# Altium footprint library Connector_Samtec_FSI.PcbLib: 90 footprints (part 5 of 6)
Each footprint in its own frame and in the unit in brackets; x right, y up, seen from the top. Pads: shape width x height; smd on the part's side, far side on the other; paste and mask are expansions set on the pad; w line width, h text height; cw(c..) or ccw(c..) is an arc to the next point about the centre after c.
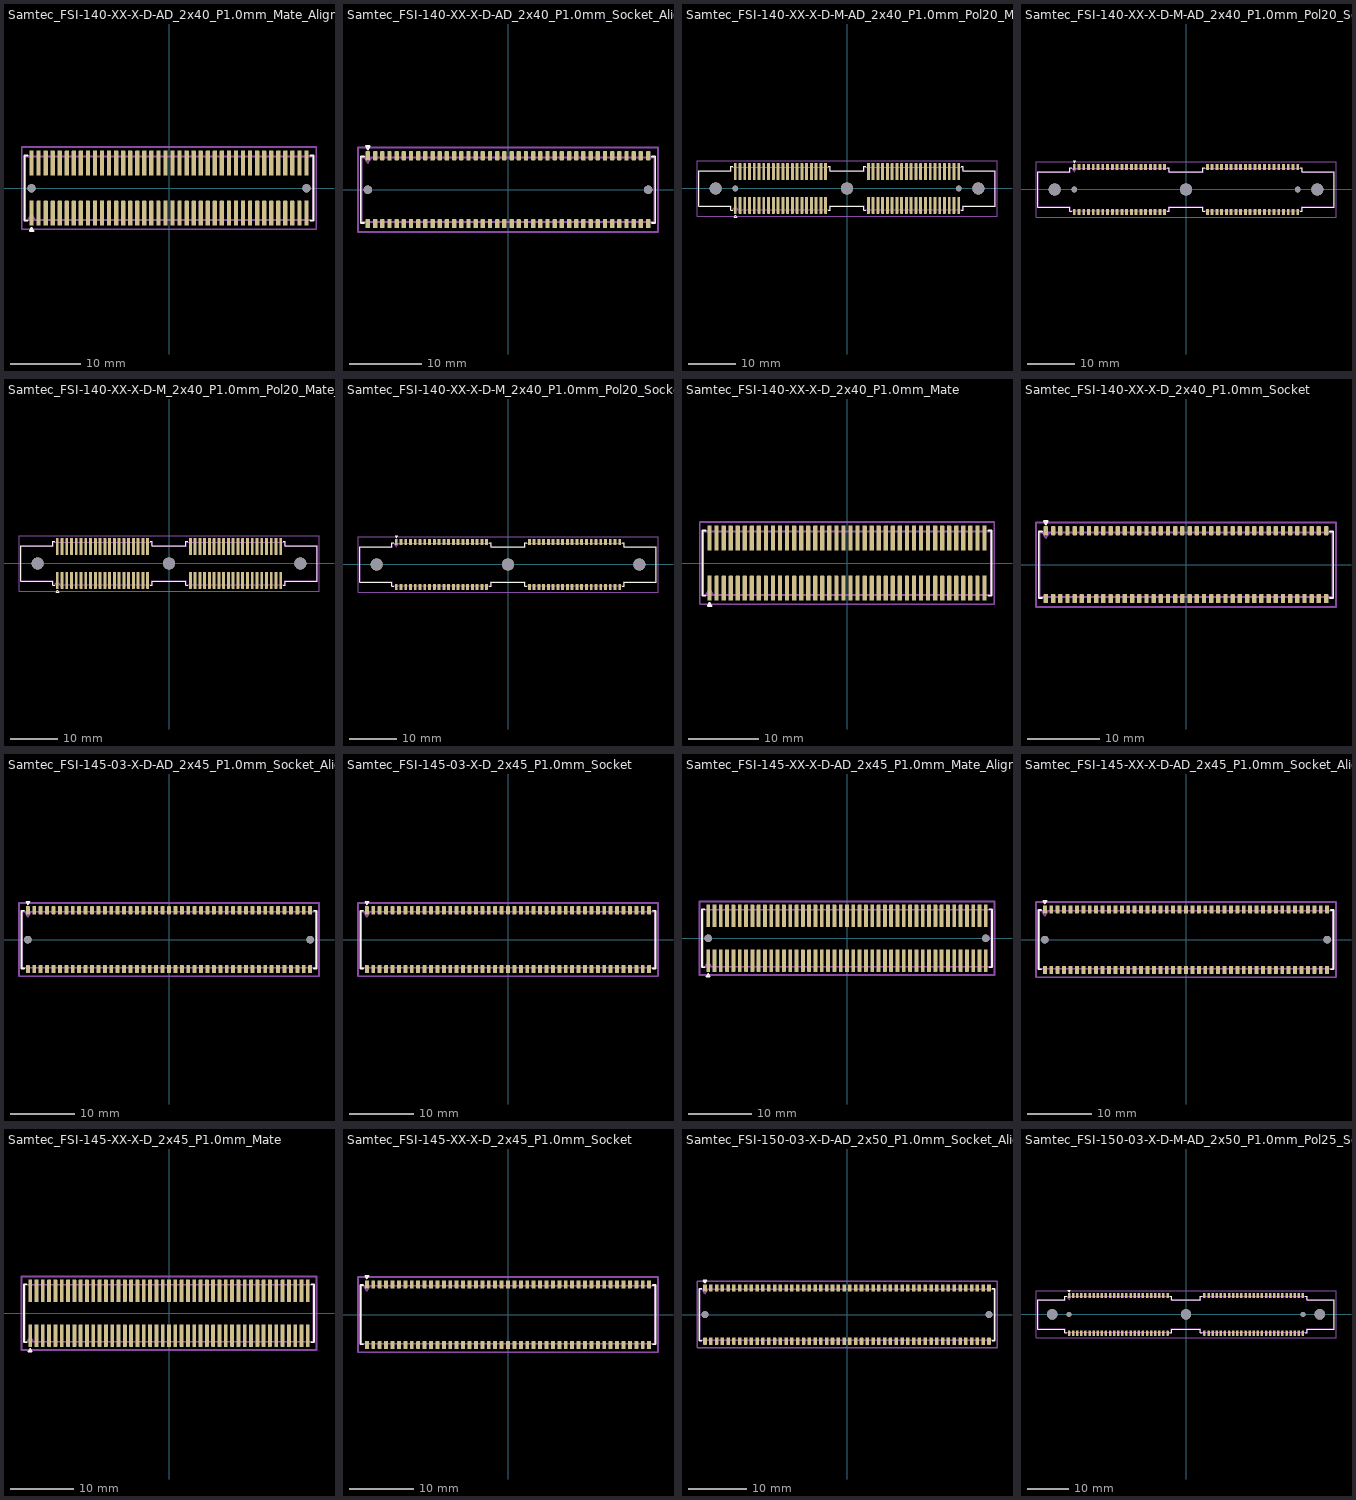
[diagram p4: the footprints below, top view; thin cyan lines are the x and y axes]

## Samtec_FSI-140-XX-X-D-AD_2x40_P1.0mm_Mate_AlignmentPin [mm]
pads (82):
  rrect25% 0.61x3.55 smd: 1(-19.5,-3.555) 2(-19.5,3.555) 3(-18.5,-3.555) 4(-18.5,3.555) 5(-17.5,-3.555) 6(-17.5,3.555) 7(-16.5,-3.555) 8(-16.5,3.555) 9(-15.5,-3.555) 10(-15.5,3.555) 11(-14.5,-3.555) 12(-14.5,3.555) 13(-13.5,-3.555) 14(-13.5,3.555) 15(-12.5,-3.555) 16(-12.5,3.555) 17(-11.5,-3.555) 18(-11.5,3.555) 19(-10.5,-3.555) 20(-10.5,3.555) 21(-9.5,-3.555) 22(-9.5,3.555) 23(-8.5,-3.555) 24(-8.5,3.555) 25(-7.5,-3.555) 26(-7.5,3.555) 27(-6.5,-3.555) 28(-6.5,3.555) 29(-5.5,-3.555) 30(-5.5,3.555) 31(-4.5,-3.555) 32(-4.5,3.555) 33(-3.5,-3.555) 34(-3.5,3.555) 35(-2.5,-3.555) 36(-2.5,3.555) 37(-1.5,-3.555) 38(-1.5,3.555) 39(-0.5,-3.555) 40(-0.5,3.555) 41(0.5,-3.555) 42(0.5,3.555) 43(1.5,-3.555) 44(1.5,3.555) 45(2.5,-3.555) 46(2.5,3.555) 47(3.5,-3.555) 48(3.5,3.555) 49(4.5,-3.555) 50(4.5,3.555) 51(5.5,-3.555) 52(5.5,3.555) 53(6.5,-3.555) 54(6.5,3.555) 55(7.5,-3.555) 56(7.5,3.555) 57(8.5,-3.555) 58(8.5,3.555) 59(9.5,-3.555) 60(9.5,3.555) 61(10.5,-3.555) 62(10.5,3.555) 63(11.5,-3.555) 64(11.5,3.555) 65(12.5,-3.555) 66(12.5,3.555) 67(13.5,-3.555) 68(13.5,3.555) 69(14.5,-3.555) 70(14.5,3.555) 71(15.5,-3.555) 72(15.5,3.555) 73(16.5,-3.555) 74(16.5,3.555) 75(17.5,-3.555) 76(17.5,3.555) 77(18.5,-3.555) 78(18.5,3.555) 79(19.5,-3.555) 80(19.5,3.555)
  round 1.19 hole 1.19: Un1(-19.5,0) Un2(19.5,0)
F.SilkS:
  lines w0.254: -20.065,-4.618 -20.49,-4.618 -20.49,4.618 -20.065,4.618 ; 20.065,-4.618 20.49,-4.618 20.49,4.618 20.065,4.618 ; -19.764,-6.066 -19.236,-6.066 -19.5,-5.609 -19.764,-6.066
Top Assembly:
  lines w0.254: -20,-4.508 -19.5,-3.708 -19,-4.508 ; -20.38,-4.508 20.38,-4.508 20.38,4.508 -20.38,4.508 -20.38,-4.508
  text "'.Designator'" at -4.047,-0.84 h1
Top Courtyard:
  lines w0.254: -20.88,-5.83 20.88,-5.83 20.88,5.83 -20.88,5.83 -20.88,-5.83
Top Designator:
  text ".Designator" at -7.618,-0.626 h1.52

## Samtec_FSI-140-XX-X-D-AD_2x40_P1.0mm_Socket_AlignmentPin [mm]
pads (82):
  rrect25% 0.61x1.26 smd: 1(-19.5,4.73) 2(-19.5,-4.73) 3(-18.5,4.73) 4(-18.5,-4.73) 5(-17.5,4.73) 6(-17.5,-4.73) 7(-16.5,4.73) 8(-16.5,-4.73) 9(-15.5,4.73) 10(-15.5,-4.73) 11(-14.5,4.73) 12(-14.5,-4.73) 13(-13.5,4.73) 14(-13.5,-4.73) 15(-12.5,4.73) 16(-12.5,-4.73) 17(-11.5,4.73) 18(-11.5,-4.73) 19(-10.5,4.73) 20(-10.5,-4.73) 21(-9.5,4.73) 22(-9.5,-4.73) 23(-8.5,4.73) 24(-8.5,-4.73) 25(-7.5,4.73) 26(-7.5,-4.73) 27(-6.5,4.73) 28(-6.5,-4.73) 29(-5.5,4.73) 30(-5.5,-4.73) 31(-4.5,4.73) 32(-4.5,-4.73) 33(-3.5,4.73) 34(-3.5,-4.73) 35(-2.5,4.73) 36(-2.5,-4.73) 37(-1.5,4.73) 38(-1.5,-4.73) 39(-0.5,4.73) 40(-0.5,-4.73) 41(0.5,4.73) 42(0.5,-4.73) 43(1.5,4.73) 44(1.5,-4.73) 45(2.5,4.73) 46(2.5,-4.73) 47(3.5,4.73) 48(3.5,-4.73) 49(4.5,4.73) 50(4.5,-4.73) 51(5.5,4.73) 52(5.5,-4.73) 53(6.5,4.73) 54(6.5,-4.73) 55(7.5,4.73) 56(7.5,-4.73) 57(8.5,4.73) 58(8.5,-4.73) 59(9.5,4.73) 60(9.5,-4.73) 61(10.5,4.73) 62(10.5,-4.73) 63(11.5,4.73) 64(11.5,-4.73) 65(12.5,4.73) 66(12.5,-4.73) 67(13.5,4.73) 68(13.5,-4.73) 69(14.5,4.73) 70(14.5,-4.73) 71(15.5,4.73) 72(15.5,-4.73) 73(16.5,4.73) 74(16.5,-4.73) 75(17.5,4.73) 76(17.5,-4.73) 77(18.5,4.73) 78(18.5,-4.73) 79(19.5,4.73) 80(19.5,-4.73)
  round 1.19 hole 1.19: Un1(-19.5,0) Un2(19.5,0)
F.SilkS:
  lines w0.254: -20.065,-4.618 -20.49,-4.618 -20.49,4.618 -20.065,4.618 ; -19.507,5.62 -19.764,6.066 -19.236,6.066 -19.493,5.62 ; 20.065,-4.618 20.49,-4.618 20.49,4.618 20.065,4.618
Top Assembly:
  lines w0.254: -20,4.508 -19.5,3.708 -19,4.508 ; -20.38,-4.508 20.38,-4.508 20.38,4.508 -20.38,4.508 -20.38,-4.508
  text "'.Designator'" at -4.047,-0.84 h1
Top Courtyard:
  lines w0.254: -20.88,-5.86 20.88,-5.86 20.88,5.86 -20.88,5.86 -20.88,-5.86
Top Designator:
  text ".Designator" at -7.618,-0.405 h1.52

## Samtec_FSI-140-XX-X-D-M-AD_2x40_P1.0mm_Pol20_Mate_Threaded_AlignmentPin [mm]
pads (85):
  rrect25% 0.61x3.55 smd: 1(-23.5,-3.555) 2(-23.5,3.555) 3(-22.5,-3.555) 4(-22.5,3.555) 5(-21.5,-3.555) 6(-21.5,3.555) 7(-20.5,-3.555) 8(-20.5,3.555) 9(-19.5,-3.555) 10(-19.5,3.555) 11(-18.5,-3.555) 12(-18.5,3.555) 13(-17.5,-3.555) 14(-17.5,3.555) 15(-16.5,-3.555) 16(-16.5,3.555) 17(-15.5,-3.555) 18(-15.5,3.555) 19(-14.5,-3.555) 20(-14.5,3.555) 21(-13.5,-3.555) 22(-13.5,3.555) 23(-12.5,-3.555) 24(-12.5,3.555) 25(-11.5,-3.555) 26(-11.5,3.555) 27(-10.5,-3.555) 28(-10.5,3.555) 29(-9.5,-3.555) 30(-9.5,3.555) 31(-8.5,-3.555) 32(-8.5,3.555) 33(-7.5,-3.555) 34(-7.5,3.555) 35(-6.5,-3.555) 36(-6.5,3.555) 37(-5.5,-3.555) 38(-5.5,3.555) 39(-4.5,-3.555) 40(-4.5,3.555) 41(4.5,-3.555) 42(4.5,3.555) 43(5.5,-3.555) 44(5.5,3.555) 45(6.5,-3.555) 46(6.5,3.555) 47(7.5,-3.555) 48(7.5,3.555) 49(8.5,-3.555) 50(8.5,3.555) 51(9.5,-3.555) 52(9.5,3.555) 53(10.5,-3.555) 54(10.5,3.555) 55(11.5,-3.555) 56(11.5,3.555) 57(12.5,-3.555) 58(12.5,3.555) 59(13.5,-3.555) 60(13.5,3.555) 61(14.5,-3.555) 62(14.5,3.555) 63(15.5,-3.555) 64(15.5,3.555) 65(16.5,-3.555) 66(16.5,3.555) 67(17.5,-3.555) 68(17.5,3.555) 69(18.5,-3.555) 70(18.5,3.555) 71(19.5,-3.555) 72(19.5,3.555) 73(20.5,-3.555) 74(20.5,3.555) 75(21.5,-3.555) 76(21.5,3.555) 77(22.5,-3.555) 78(22.5,3.555) 79(23.5,-3.555) 80(23.5,3.555)
  round 2.54 hole 2.54: Un1(-27.62,0) Un3(0,0) Un5(27.62,0)
  round 1.19 hole 1.19: Un2(-23.5,0) Un4(23.5,0)
F.SilkS:
  lines w0.254: -24.065,-4.618 -24.49,-4.618 -24.49,-3.734 -31.16,-3.734 -31.16,3.734 -24.49,3.734 -24.49,4.618 -24.065,4.618 ; -3.935,-4.618 -3.51,-4.618 -3.51,-3.734 3.51,-3.734 3.51,-4.618 3.935,-4.618 ; -3.935,4.618 -3.51,4.618 -3.51,3.734 3.51,3.734 3.51,4.618 3.935,4.618 ; 24.065,-4.618 24.49,-4.618 24.49,-3.734 31.16,-3.734 31.16,3.734 24.49,3.734 24.49,4.618 24.065,4.618 ; -23.764,-6.066 -23.236,-6.066 -23.5,-5.609 -23.764,-6.066
Top Assembly:
  lines w0.254: -24,-4.508 -23.5,-3.708 -23,-4.508 ; -31.05,-3.624 -24.38,-3.624 -24.38,-4.508 -3.62,-4.508 -3.62,-3.624 3.62,-3.624 3.62,-4.508 24.38,-4.508 24.38,-3.624 31.05,-3.624 31.05,3.624 24.38,3.624 24.38,4.508 3.62,4.508 3.62,3.624 -3.62,3.624 -3.62,4.508 -24.38,4.508 -24.38,3.624 -31.05,3.624 -31.05,-3.624
  text "'.Designator'" at -4.047,-0.84 h1
Top Courtyard:
  lines w0.254: -31.55,-5.83 31.55,-5.83 31.55,5.83 -31.55,5.83 -31.55,-5.83
Top Designator:
  text ".Designator" at -7.618,-0.626 h1.52

## Samtec_FSI-140-XX-X-D-M-AD_2x40_P1.0mm_Pol20_Socket_Threaded_AlignmentPin [mm]
pads (85):
  rrect25% 0.61x1.26 smd: 1(-23.5,4.73) 2(-23.5,-4.73) 3(-22.5,4.73) 4(-22.5,-4.73) 5(-21.5,4.73) 6(-21.5,-4.73) 7(-20.5,4.73) 8(-20.5,-4.73) 9(-19.5,4.73) 10(-19.5,-4.73) 11(-18.5,4.73) 12(-18.5,-4.73) 13(-17.5,4.73) 14(-17.5,-4.73) 15(-16.5,4.73) 16(-16.5,-4.73) 17(-15.5,4.73) 18(-15.5,-4.73) 19(-14.5,4.73) 20(-14.5,-4.73) 21(-13.5,4.73) 22(-13.5,-4.73) 23(-12.5,4.73) 24(-12.5,-4.73) 25(-11.5,4.73) 26(-11.5,-4.73) 27(-10.5,4.73) 28(-10.5,-4.73) 29(-9.5,4.73) 30(-9.5,-4.73) 31(-8.5,4.73) 32(-8.5,-4.73) 33(-7.5,4.73) 34(-7.5,-4.73) 35(-6.5,4.73) 36(-6.5,-4.73) 37(-5.5,4.73) 38(-5.5,-4.73) 39(-4.5,4.73) 40(-4.5,-4.73) 41(4.5,4.73) 42(4.5,-4.73) 43(5.5,4.73) 44(5.5,-4.73) 45(6.5,4.73) 46(6.5,-4.73) 47(7.5,4.73) 48(7.5,-4.73) 49(8.5,4.73) 50(8.5,-4.73) 51(9.5,4.73) 52(9.5,-4.73) 53(10.5,4.73) 54(10.5,-4.73) 55(11.5,4.73) 56(11.5,-4.73) 57(12.5,4.73) 58(12.5,-4.73) 59(13.5,4.73) 60(13.5,-4.73) 61(14.5,4.73) 62(14.5,-4.73) 63(15.5,4.73) 64(15.5,-4.73) 65(16.5,4.73) 66(16.5,-4.73) 67(17.5,4.73) 68(17.5,-4.73) 69(18.5,4.73) 70(18.5,-4.73) 71(19.5,4.73) 72(19.5,-4.73) 73(20.5,4.73) 74(20.5,-4.73) 75(21.5,4.73) 76(21.5,-4.73) 77(22.5,4.73) 78(22.5,-4.73) 79(23.5,4.73) 80(23.5,-4.73)
  round 2.54 hole 2.54: Un1(-27.62,0) Un3(0,0) Un5(27.62,0)
  round 1.19 hole 1.19: Un2(-23.5,0) Un4(23.5,0)
F.SilkS:
  lines w0.254: -24.065,-4.618 -24.49,-4.618 -24.49,-3.734 -31.16,-3.734 -31.16,3.734 -24.49,3.734 -24.49,4.618 -24.065,4.618 ; -23.507,5.62 -23.764,6.066 -23.236,6.066 -23.493,5.62 ; -3.935,-4.618 -3.51,-4.618 -3.51,-3.734 3.51,-3.734 3.51,-4.618 3.935,-4.618 ; -3.935,4.618 -3.51,4.618 -3.51,3.734 3.51,3.734 3.51,4.618 3.935,4.618 ; 24.065,-4.618 24.49,-4.618 24.49,-3.734 31.16,-3.734 31.16,3.734 24.49,3.734 24.49,4.618 24.065,4.618
Top Assembly:
  lines w0.254: -24,4.508 -23.5,3.708 -23,4.508 ; -31.05,-3.624 -24.38,-3.624 -24.38,-4.508 -3.62,-4.508 -3.62,-3.624 3.62,-3.624 3.62,-4.508 24.38,-4.508 24.38,-3.624 31.05,-3.624 31.05,3.624 24.38,3.624 24.38,4.508 3.62,4.508 3.62,3.624 -3.62,3.624 -3.62,4.508 -24.38,4.508 -24.38,3.624 -31.05,3.624 -31.05,-3.624
  text "'.Designator'" at -4.047,-0.84 h1
Top Courtyard:
  lines w0.254: -31.55,-5.86 31.55,-5.86 31.55,5.86 -31.55,5.86 -31.55,-5.86
Top Designator:
  text ".Designator" at -7.618,-0.405 h1.52

## Samtec_FSI-140-XX-X-D-M_2x40_P1.0mm_Pol20_Mate_Threaded [mm]
pads (83):
  rrect25% 0.61x3.55 smd: 1(-23.5,-3.555) 2(-23.5,3.555) 3(-22.5,-3.555) 4(-22.5,3.555) 5(-21.5,-3.555) 6(-21.5,3.555) 7(-20.5,-3.555) 8(-20.5,3.555) 9(-19.5,-3.555) 10(-19.5,3.555) 11(-18.5,-3.555) 12(-18.5,3.555) 13(-17.5,-3.555) 14(-17.5,3.555) 15(-16.5,-3.555) 16(-16.5,3.555) 17(-15.5,-3.555) 18(-15.5,3.555) 19(-14.5,-3.555) 20(-14.5,3.555) 21(-13.5,-3.555) 22(-13.5,3.555) 23(-12.5,-3.555) 24(-12.5,3.555) 25(-11.5,-3.555) 26(-11.5,3.555) 27(-10.5,-3.555) 28(-10.5,3.555) 29(-9.5,-3.555) 30(-9.5,3.555) 31(-8.5,-3.555) 32(-8.5,3.555) 33(-7.5,-3.555) 34(-7.5,3.555) 35(-6.5,-3.555) 36(-6.5,3.555) 37(-5.5,-3.555) 38(-5.5,3.555) 39(-4.5,-3.555) 40(-4.5,3.555) 41(4.5,-3.555) 42(4.5,3.555) 43(5.5,-3.555) 44(5.5,3.555) 45(6.5,-3.555) 46(6.5,3.555) 47(7.5,-3.555) 48(7.5,3.555) 49(8.5,-3.555) 50(8.5,3.555) 51(9.5,-3.555) 52(9.5,3.555) 53(10.5,-3.555) 54(10.5,3.555) 55(11.5,-3.555) 56(11.5,3.555) 57(12.5,-3.555) 58(12.5,3.555) 59(13.5,-3.555) 60(13.5,3.555) 61(14.5,-3.555) 62(14.5,3.555) 63(15.5,-3.555) 64(15.5,3.555) 65(16.5,-3.555) 66(16.5,3.555) 67(17.5,-3.555) 68(17.5,3.555) 69(18.5,-3.555) 70(18.5,3.555) 71(19.5,-3.555) 72(19.5,3.555) 73(20.5,-3.555) 74(20.5,3.555) 75(21.5,-3.555) 76(21.5,3.555) 77(22.5,-3.555) 78(22.5,3.555) 79(23.5,-3.555) 80(23.5,3.555)
  round 2.54 hole 2.54: Un1(-27.62,0) Un2(0,0) Un3(27.62,0)
F.SilkS:
  lines w0.254: -24.065,-4.618 -24.49,-4.618 -24.49,-3.734 -31.16,-3.734 -31.16,3.734 -24.49,3.734 -24.49,4.618 -24.065,4.618 ; -3.935,-4.618 -3.51,-4.618 -3.51,-3.734 3.51,-3.734 3.51,-4.618 3.935,-4.618 ; -3.935,4.618 -3.51,4.618 -3.51,3.734 3.51,3.734 3.51,4.618 3.935,4.618 ; 24.065,-4.618 24.49,-4.618 24.49,-3.734 31.16,-3.734 31.16,3.734 24.49,3.734 24.49,4.618 24.065,4.618 ; -23.764,-6.066 -23.236,-6.066 -23.5,-5.609 -23.764,-6.066
Top Assembly:
  lines w0.254: -24,-4.508 -23.5,-3.708 -23,-4.508 ; -31.05,-3.624 -24.38,-3.624 -24.38,-4.508 -3.62,-4.508 -3.62,-3.624 3.62,-3.624 3.62,-4.508 24.38,-4.508 24.38,-3.624 31.05,-3.624 31.05,3.624 24.38,3.624 24.38,4.508 3.62,4.508 3.62,3.624 -3.62,3.624 -3.62,4.508 -24.38,4.508 -24.38,3.624 -31.05,3.624 -31.05,-3.624
  text "'.Designator'" at -4.047,-0.84 h1
Top Courtyard:
  lines w0.254: -31.55,-5.83 31.55,-5.83 31.55,5.83 -31.55,5.83 -31.55,-5.83
Top Designator:
  text ".Designator" at -7.618,-0.626 h1.52

## Samtec_FSI-140-XX-X-D-M_2x40_P1.0mm_Pol20_Socket_Threaded [mm]
pads (83):
  rrect25% 0.61x1.26 smd: 1(-23.5,4.73) 2(-23.5,-4.73) 3(-22.5,4.73) 4(-22.5,-4.73) 5(-21.5,4.73) 6(-21.5,-4.73) 7(-20.5,4.73) 8(-20.5,-4.73) 9(-19.5,4.73) 10(-19.5,-4.73) 11(-18.5,4.73) 12(-18.5,-4.73) 13(-17.5,4.73) 14(-17.5,-4.73) 15(-16.5,4.73) 16(-16.5,-4.73) 17(-15.5,4.73) 18(-15.5,-4.73) 19(-14.5,4.73) 20(-14.5,-4.73) 21(-13.5,4.73) 22(-13.5,-4.73) 23(-12.5,4.73) 24(-12.5,-4.73) 25(-11.5,4.73) 26(-11.5,-4.73) 27(-10.5,4.73) 28(-10.5,-4.73) 29(-9.5,4.73) 30(-9.5,-4.73) 31(-8.5,4.73) 32(-8.5,-4.73) 33(-7.5,4.73) 34(-7.5,-4.73) 35(-6.5,4.73) 36(-6.5,-4.73) 37(-5.5,4.73) 38(-5.5,-4.73) 39(-4.5,4.73) 40(-4.5,-4.73) 41(4.5,4.73) 42(4.5,-4.73) 43(5.5,4.73) 44(5.5,-4.73) 45(6.5,4.73) 46(6.5,-4.73) 47(7.5,4.73) 48(7.5,-4.73) 49(8.5,4.73) 50(8.5,-4.73) 51(9.5,4.73) 52(9.5,-4.73) 53(10.5,4.73) 54(10.5,-4.73) 55(11.5,4.73) 56(11.5,-4.73) 57(12.5,4.73) 58(12.5,-4.73) 59(13.5,4.73) 60(13.5,-4.73) 61(14.5,4.73) 62(14.5,-4.73) 63(15.5,4.73) 64(15.5,-4.73) 65(16.5,4.73) 66(16.5,-4.73) 67(17.5,4.73) 68(17.5,-4.73) 69(18.5,4.73) 70(18.5,-4.73) 71(19.5,4.73) 72(19.5,-4.73) 73(20.5,4.73) 74(20.5,-4.73) 75(21.5,4.73) 76(21.5,-4.73) 77(22.5,4.73) 78(22.5,-4.73) 79(23.5,4.73) 80(23.5,-4.73)
  round 2.54 hole 2.54: Un1(-27.62,0) Un2(0,0) Un3(27.62,0)
F.SilkS:
  lines w0.254: -24.065,-4.618 -24.49,-4.618 -24.49,-3.734 -31.16,-3.734 -31.16,3.734 -24.49,3.734 -24.49,4.618 -24.065,4.618 ; -23.507,5.62 -23.764,6.066 -23.236,6.066 -23.493,5.62 ; -3.935,-4.618 -3.51,-4.618 -3.51,-3.734 3.51,-3.734 3.51,-4.618 3.935,-4.618 ; -3.935,4.618 -3.51,4.618 -3.51,3.734 3.51,3.734 3.51,4.618 3.935,4.618 ; 24.065,-4.618 24.49,-4.618 24.49,-3.734 31.16,-3.734 31.16,3.734 24.49,3.734 24.49,4.618 24.065,4.618
Top Assembly:
  lines w0.254: -24,4.508 -23.5,3.708 -23,4.508 ; -31.05,-3.624 -24.38,-3.624 -24.38,-4.508 -3.62,-4.508 -3.62,-3.624 3.62,-3.624 3.62,-4.508 24.38,-4.508 24.38,-3.624 31.05,-3.624 31.05,3.624 24.38,3.624 24.38,4.508 3.62,4.508 3.62,3.624 -3.62,3.624 -3.62,4.508 -24.38,4.508 -24.38,3.624 -31.05,3.624 -31.05,-3.624
  text "'.Designator'" at -4.047,-0.84 h1
Top Courtyard:
  lines w0.254: -31.55,-5.86 31.55,-5.86 31.55,5.86 -31.55,5.86 -31.55,-5.86
Top Designator:
  text ".Designator" at -7.618,-0.405 h1.52

## Samtec_FSI-140-XX-X-D_2x40_P1.0mm_Mate [mm]
pads (80):
  rrect25% 0.61x3.55 smd: 1(-19.5,-3.555) 2(-19.5,3.555) 3(-18.5,-3.555) 4(-18.5,3.555) 5(-17.5,-3.555) 6(-17.5,3.555) 7(-16.5,-3.555) 8(-16.5,3.555) 9(-15.5,-3.555) 10(-15.5,3.555) 11(-14.5,-3.555) 12(-14.5,3.555) 13(-13.5,-3.555) 14(-13.5,3.555) 15(-12.5,-3.555) 16(-12.5,3.555) 17(-11.5,-3.555) 18(-11.5,3.555) 19(-10.5,-3.555) 20(-10.5,3.555) 21(-9.5,-3.555) 22(-9.5,3.555) 23(-8.5,-3.555) 24(-8.5,3.555) 25(-7.5,-3.555) 26(-7.5,3.555) 27(-6.5,-3.555) 28(-6.5,3.555) 29(-5.5,-3.555) 30(-5.5,3.555) 31(-4.5,-3.555) 32(-4.5,3.555) 33(-3.5,-3.555) 34(-3.5,3.555) 35(-2.5,-3.555) 36(-2.5,3.555) 37(-1.5,-3.555) 38(-1.5,3.555) 39(-0.5,-3.555) 40(-0.5,3.555) 41(0.5,-3.555) 42(0.5,3.555) 43(1.5,-3.555) 44(1.5,3.555) 45(2.5,-3.555) 46(2.5,3.555) 47(3.5,-3.555) 48(3.5,3.555) 49(4.5,-3.555) 50(4.5,3.555) 51(5.5,-3.555) 52(5.5,3.555) 53(6.5,-3.555) 54(6.5,3.555) 55(7.5,-3.555) 56(7.5,3.555) 57(8.5,-3.555) 58(8.5,3.555) 59(9.5,-3.555) 60(9.5,3.555) 61(10.5,-3.555) 62(10.5,3.555) 63(11.5,-3.555) 64(11.5,3.555) 65(12.5,-3.555) 66(12.5,3.555) 67(13.5,-3.555) 68(13.5,3.555) 69(14.5,-3.555) 70(14.5,3.555) 71(15.5,-3.555) 72(15.5,3.555) 73(16.5,-3.555) 74(16.5,3.555) 75(17.5,-3.555) 76(17.5,3.555) 77(18.5,-3.555) 78(18.5,3.555) 79(19.5,-3.555) 80(19.5,3.555)
F.SilkS:
  lines w0.254: -20.065,-4.618 -20.49,-4.618 -20.49,4.618 -20.065,4.618 ; 20.065,-4.618 20.49,-4.618 20.49,4.618 20.065,4.618 ; -19.764,-6.066 -19.236,-6.066 -19.5,-5.609 -19.764,-6.066
Top Assembly:
  lines w0.254: -20,-4.508 -19.5,-3.708 -19,-4.508 ; -20.38,-4.508 20.38,-4.508 20.38,4.508 -20.38,4.508 -20.38,-4.508
  text "'.Designator'" at -4.047,-0.84 h1
Top Courtyard:
  lines w0.254: -20.88,-5.83 20.88,-5.83 20.88,5.83 -20.88,5.83 -20.88,-5.83
Top Designator:
  text ".Designator" at -7.618,-0.626 h1.52

## Samtec_FSI-140-XX-X-D_2x40_P1.0mm_Socket [mm]
pads (80):
  rrect25% 0.61x1.26 smd: 1(-19.5,4.73) 2(-19.5,-4.73) 3(-18.5,4.73) 4(-18.5,-4.73) 5(-17.5,4.73) 6(-17.5,-4.73) 7(-16.5,4.73) 8(-16.5,-4.73) 9(-15.5,4.73) 10(-15.5,-4.73) 11(-14.5,4.73) 12(-14.5,-4.73) 13(-13.5,4.73) 14(-13.5,-4.73) 15(-12.5,4.73) 16(-12.5,-4.73) 17(-11.5,4.73) 18(-11.5,-4.73) 19(-10.5,4.73) 20(-10.5,-4.73) 21(-9.5,4.73) 22(-9.5,-4.73) 23(-8.5,4.73) 24(-8.5,-4.73) 25(-7.5,4.73) 26(-7.5,-4.73) 27(-6.5,4.73) 28(-6.5,-4.73) 29(-5.5,4.73) 30(-5.5,-4.73) 31(-4.5,4.73) 32(-4.5,-4.73) 33(-3.5,4.73) 34(-3.5,-4.73) 35(-2.5,4.73) 36(-2.5,-4.73) 37(-1.5,4.73) 38(-1.5,-4.73) 39(-0.5,4.73) 40(-0.5,-4.73) 41(0.5,4.73) 42(0.5,-4.73) 43(1.5,4.73) 44(1.5,-4.73) 45(2.5,4.73) 46(2.5,-4.73) 47(3.5,4.73) 48(3.5,-4.73) 49(4.5,4.73) 50(4.5,-4.73) 51(5.5,4.73) 52(5.5,-4.73) 53(6.5,4.73) 54(6.5,-4.73) 55(7.5,4.73) 56(7.5,-4.73) 57(8.5,4.73) 58(8.5,-4.73) 59(9.5,4.73) 60(9.5,-4.73) 61(10.5,4.73) 62(10.5,-4.73) 63(11.5,4.73) 64(11.5,-4.73) 65(12.5,4.73) 66(12.5,-4.73) 67(13.5,4.73) 68(13.5,-4.73) 69(14.5,4.73) 70(14.5,-4.73) 71(15.5,4.73) 72(15.5,-4.73) 73(16.5,4.73) 74(16.5,-4.73) 75(17.5,4.73) 76(17.5,-4.73) 77(18.5,4.73) 78(18.5,-4.73) 79(19.5,4.73) 80(19.5,-4.73)
F.SilkS:
  lines w0.254: -20.065,-4.618 -20.49,-4.618 -20.49,4.618 -20.065,4.618 ; -19.507,5.62 -19.764,6.066 -19.236,6.066 -19.493,5.62 ; 20.065,-4.618 20.49,-4.618 20.49,4.618 20.065,4.618
Top Assembly:
  lines w0.254: -20,4.508 -19.5,3.708 -19,4.508 ; -20.38,-4.508 20.38,-4.508 20.38,4.508 -20.38,4.508 -20.38,-4.508
  text "'.Designator'" at -4.047,-0.84 h1
Top Courtyard:
  lines w0.254: -20.88,-5.86 20.88,-5.86 20.88,5.86 -20.88,5.86 -20.88,-5.86
Top Designator:
  text ".Designator" at -7.618,-0.405 h1.52

## Samtec_FSI-145-03-X-D-AD_2x45_P1.0mm_Socket_AlignmentPin [mm]
pads (92):
  rrect25% 0.61x1.26 smd: 1(-22,4.59) 2(-22,-4.59) 3(-21,4.59) 4(-21,-4.59) 5(-20,4.59) 6(-20,-4.59) 7(-19,4.59) 8(-19,-4.59) 9(-18,4.59) 10(-18,-4.59) 11(-17,4.59) 12(-17,-4.59) 13(-16,4.59) 14(-16,-4.59) 15(-15,4.59) 16(-15,-4.59) 17(-14,4.59) 18(-14,-4.59) 19(-13,4.59) 20(-13,-4.59) 21(-12,4.59) 22(-12,-4.59) 23(-11,4.59) 24(-11,-4.59) 25(-10,4.59) 26(-10,-4.59) 27(-9,4.59) 28(-9,-4.59) 29(-8,4.59) 30(-8,-4.59) 31(-7,4.59) 32(-7,-4.59) 33(-6,4.59) 34(-6,-4.59) 35(-5,4.59) 36(-5,-4.59) 37(-4,4.59) 38(-4,-4.59) 39(-3,4.59) 40(-3,-4.59) 41(-2,4.59) 42(-2,-4.59) 43(-1,4.59) 44(-1,-4.59) 45(0,4.59) 46(0,-4.59) 47(1,4.59) 48(1,-4.59) 49(2,4.59) 50(2,-4.59) 51(3,4.59) 52(3,-4.59) 53(4,4.59) 54(4,-4.59) 55(5,4.59) 56(5,-4.59) 57(6,4.59) 58(6,-4.59) 59(7,4.59) 60(7,-4.59) 61(8,4.59) 62(8,-4.59) 63(9,4.59) 64(9,-4.59) 65(10,4.59) 66(10,-4.59) 67(11,4.59) 68(11,-4.59) 69(12,4.59) 70(12,-4.59) 71(13,4.59) 72(13,-4.59) 73(14,4.59) 74(14,-4.59) 75(15,4.59) 76(15,-4.59) 77(16,4.59) 78(16,-4.59) 79(17,4.59) 80(17,-4.59) 81(18,4.59) 82(18,-4.59) 83(19,4.59) 84(19,-4.59) 85(20,4.59) 86(20,-4.59) 87(21,4.59) 88(21,-4.59) 89(22,4.59) 90(22,-4.59)
  round 1.19 hole 1.19: Un1(-22,0) Un2(22,0)
F.SilkS:
  lines w0.254: -22.565,-4.49 -22.99,-4.49 -22.99,4.49 -22.565,4.49 ; 22.565,-4.49 22.99,-4.49 22.99,4.49 22.565,4.49 ; -22.264,5.937 -21.736,5.937 -22,5.48 -22.264,5.937
Top Assembly:
  lines w0.254: -22.5,4.38 -22,3.58 -21.5,4.38 ; -22.88,-4.38 22.88,-4.38 22.88,4.38 -22.88,4.38 -22.88,-4.38
  text "'.Designator'" at -4.047,-0.84 h1
Top Courtyard:
  lines w0.254: -23.38,-5.72 23.38,-5.72 23.38,5.72 -23.38,5.72 -23.38,-5.72
Top Designator:
  text ".Designator" at -7.618,-0.399 h1.52

## Samtec_FSI-145-03-X-D_2x45_P1.0mm_Socket [mm]
pads (90):
  rrect25% 0.61x1.26 smd: 1(-22,4.59) 2(-22,-4.59) 3(-21,4.59) 4(-21,-4.59) 5(-20,4.59) 6(-20,-4.59) 7(-19,4.59) 8(-19,-4.59) 9(-18,4.59) 10(-18,-4.59) 11(-17,4.59) 12(-17,-4.59) 13(-16,4.59) 14(-16,-4.59) 15(-15,4.59) 16(-15,-4.59) 17(-14,4.59) 18(-14,-4.59) 19(-13,4.59) 20(-13,-4.59) 21(-12,4.59) 22(-12,-4.59) 23(-11,4.59) 24(-11,-4.59) 25(-10,4.59) 26(-10,-4.59) 27(-9,4.59) 28(-9,-4.59) 29(-8,4.59) 30(-8,-4.59) 31(-7,4.59) 32(-7,-4.59) 33(-6,4.59) 34(-6,-4.59) 35(-5,4.59) 36(-5,-4.59) 37(-4,4.59) 38(-4,-4.59) 39(-3,4.59) 40(-3,-4.59) 41(-2,4.59) 42(-2,-4.59) 43(-1,4.59) 44(-1,-4.59) 45(0,4.59) 46(0,-4.59) 47(1,4.59) 48(1,-4.59) 49(2,4.59) 50(2,-4.59) 51(3,4.59) 52(3,-4.59) 53(4,4.59) 54(4,-4.59) 55(5,4.59) 56(5,-4.59) 57(6,4.59) 58(6,-4.59) 59(7,4.59) 60(7,-4.59) 61(8,4.59) 62(8,-4.59) 63(9,4.59) 64(9,-4.59) 65(10,4.59) 66(10,-4.59) 67(11,4.59) 68(11,-4.59) 69(12,4.59) 70(12,-4.59) 71(13,4.59) 72(13,-4.59) 73(14,4.59) 74(14,-4.59) 75(15,4.59) 76(15,-4.59) 77(16,4.59) 78(16,-4.59) 79(17,4.59) 80(17,-4.59) 81(18,4.59) 82(18,-4.59) 83(19,4.59) 84(19,-4.59) 85(20,4.59) 86(20,-4.59) 87(21,4.59) 88(21,-4.59) 89(22,4.59) 90(22,-4.59)
F.SilkS:
  lines w0.254: -22.565,-4.49 -22.99,-4.49 -22.99,4.49 -22.565,4.49 ; 22.565,-4.49 22.99,-4.49 22.99,4.49 22.565,4.49 ; -22.264,5.937 -21.736,5.937 -22,5.48 -22.264,5.937
Top Assembly:
  lines w0.254: -22.5,4.38 -22,3.58 -21.5,4.38 ; -22.88,-4.38 22.88,-4.38 22.88,4.38 -22.88,4.38 -22.88,-4.38
  text "'.Designator'" at -4.047,-0.84 h1
Top Courtyard:
  lines w0.254: -23.38,-5.72 23.38,-5.72 23.38,5.72 -23.38,5.72 -23.38,-5.72
Top Designator:
  text ".Designator" at -7.618,-0.399 h1.52

## Samtec_FSI-145-XX-X-D-AD_2x45_P1.0mm_Mate_AlignmentPin [mm]
pads (92):
  rrect25% 0.61x3.55 smd: 1(-22,-3.555) 2(-22,3.555) 3(-21,-3.555) 4(-21,3.555) 5(-20,-3.555) 6(-20,3.555) 7(-19,-3.555) 8(-19,3.555) 9(-18,-3.555) 10(-18,3.555) 11(-17,-3.555) 12(-17,3.555) 13(-16,-3.555) 14(-16,3.555) 15(-15,-3.555) 16(-15,3.555) 17(-14,-3.555) 18(-14,3.555) 19(-13,-3.555) 20(-13,3.555) 21(-12,-3.555) 22(-12,3.555) 23(-11,-3.555) 24(-11,3.555) 25(-10,-3.555) 26(-10,3.555) 27(-9,-3.555) 28(-9,3.555) 29(-8,-3.555) 30(-8,3.555) 31(-7,-3.555) 32(-7,3.555) 33(-6,-3.555) 34(-6,3.555) 35(-5,-3.555) 36(-5,3.555) 37(-4,-3.555) 38(-4,3.555) 39(-3,-3.555) 40(-3,3.555) 41(-2,-3.555) 42(-2,3.555) 43(-1,-3.555) 44(-1,3.555) 45(0,-3.555) 46(0,3.555) 47(1,-3.555) 48(1,3.555) 49(2,-3.555) 50(2,3.555) 51(3,-3.555) 52(3,3.555) 53(4,-3.555) 54(4,3.555) 55(5,-3.555) 56(5,3.555) 57(6,-3.555) 58(6,3.555) 59(7,-3.555) 60(7,3.555) 61(8,-3.555) 62(8,3.555) 63(9,-3.555) 64(9,3.555) 65(10,-3.555) 66(10,3.555) 67(11,-3.555) 68(11,3.555) 69(12,-3.555) 70(12,3.555) 71(13,-3.555) 72(13,3.555) 73(14,-3.555) 74(14,3.555) 75(15,-3.555) 76(15,3.555) 77(16,-3.555) 78(16,3.555) 79(17,-3.555) 80(17,3.555) 81(18,-3.555) 82(18,3.555) 83(19,-3.555) 84(19,3.555) 85(20,-3.555) 86(20,3.555) 87(21,-3.555) 88(21,3.555) 89(22,-3.555) 90(22,3.555)
  round 1.19 hole 1.19: Un1(-22,0) Un2(22,0)
F.SilkS:
  lines w0.254: -22.565,-4.618 -22.99,-4.618 -22.99,4.618 -22.565,4.618 ; 22.565,-4.618 22.99,-4.618 22.99,4.618 22.565,4.618 ; -22.264,-6.066 -21.736,-6.066 -22,-5.609 -22.264,-6.066
Top Assembly:
  lines w0.254: -22.5,-4.508 -22,-3.708 -21.5,-4.508 ; -22.88,-4.508 22.88,-4.508 22.88,4.508 -22.88,4.508 -22.88,-4.508
  text "'.Designator'" at -4.047,-0.84 h1
Top Courtyard:
  lines w0.254: -23.38,-5.83 23.38,-5.83 23.38,5.83 -23.38,5.83 -23.38,-5.83
Top Designator:
  text ".Designator" at -7.618,-0.626 h1.52

## Samtec_FSI-145-XX-X-D-AD_2x45_P1.0mm_Socket_AlignmentPin [mm]
pads (92):
  rrect25% 0.61x1.26 smd: 1(-22,4.73) 2(-22,-4.73) 3(-21,4.73) 4(-21,-4.73) 5(-20,4.73) 6(-20,-4.73) 7(-19,4.73) 8(-19,-4.73) 9(-18,4.73) 10(-18,-4.73) 11(-17,4.73) 12(-17,-4.73) 13(-16,4.73) 14(-16,-4.73) 15(-15,4.73) 16(-15,-4.73) 17(-14,4.73) 18(-14,-4.73) 19(-13,4.73) 20(-13,-4.73) 21(-12,4.73) 22(-12,-4.73) 23(-11,4.73) 24(-11,-4.73) 25(-10,4.73) 26(-10,-4.73) 27(-9,4.73) 28(-9,-4.73) 29(-8,4.73) 30(-8,-4.73) 31(-7,4.73) 32(-7,-4.73) 33(-6,4.73) 34(-6,-4.73) 35(-5,4.73) 36(-5,-4.73) 37(-4,4.73) 38(-4,-4.73) 39(-3,4.73) 40(-3,-4.73) 41(-2,4.73) 42(-2,-4.73) 43(-1,4.73) 44(-1,-4.73) 45(0,4.73) 46(0,-4.73) 47(1,4.73) 48(1,-4.73) 49(2,4.73) 50(2,-4.73) 51(3,4.73) 52(3,-4.73) 53(4,4.73) 54(4,-4.73) 55(5,4.73) 56(5,-4.73) 57(6,4.73) 58(6,-4.73) 59(7,4.73) 60(7,-4.73) 61(8,4.73) 62(8,-4.73) 63(9,4.73) 64(9,-4.73) 65(10,4.73) 66(10,-4.73) 67(11,4.73) 68(11,-4.73) 69(12,4.73) 70(12,-4.73) 71(13,4.73) 72(13,-4.73) 73(14,4.73) 74(14,-4.73) 75(15,4.73) 76(15,-4.73) 77(16,4.73) 78(16,-4.73) 79(17,4.73) 80(17,-4.73) 81(18,4.73) 82(18,-4.73) 83(19,4.73) 84(19,-4.73) 85(20,4.73) 86(20,-4.73) 87(21,4.73) 88(21,-4.73) 89(22,4.73) 90(22,-4.73)
  round 1.19 hole 1.19: Un1(-22,0) Un2(22,0)
F.SilkS:
  lines w0.254: -22.565,-4.618 -22.99,-4.618 -22.99,4.618 -22.565,4.618 ; -22.007,5.62 -22.264,6.066 -21.736,6.066 -21.993,5.62 ; 22.565,-4.618 22.99,-4.618 22.99,4.618 22.565,4.618
Top Assembly:
  lines w0.254: -22.5,4.508 -22,3.708 -21.5,4.508 ; -22.88,-4.508 22.88,-4.508 22.88,4.508 -22.88,4.508 -22.88,-4.508
  text "'.Designator'" at -4.047,-0.84 h1
Top Courtyard:
  lines w0.254: -23.38,-5.86 23.38,-5.86 23.38,5.86 -23.38,5.86 -23.38,-5.86
Top Designator:
  text ".Designator" at -7.618,-0.405 h1.52

## Samtec_FSI-145-XX-X-D_2x45_P1.0mm_Mate [mm]
pads (90):
  rrect25% 0.61x3.55 smd: 1(-22,-3.555) 2(-22,3.555) 3(-21,-3.555) 4(-21,3.555) 5(-20,-3.555) 6(-20,3.555) 7(-19,-3.555) 8(-19,3.555) 9(-18,-3.555) 10(-18,3.555) 11(-17,-3.555) 12(-17,3.555) 13(-16,-3.555) 14(-16,3.555) 15(-15,-3.555) 16(-15,3.555) 17(-14,-3.555) 18(-14,3.555) 19(-13,-3.555) 20(-13,3.555) 21(-12,-3.555) 22(-12,3.555) 23(-11,-3.555) 24(-11,3.555) 25(-10,-3.555) 26(-10,3.555) 27(-9,-3.555) 28(-9,3.555) 29(-8,-3.555) 30(-8,3.555) 31(-7,-3.555) 32(-7,3.555) 33(-6,-3.555) 34(-6,3.555) 35(-5,-3.555) 36(-5,3.555) 37(-4,-3.555) 38(-4,3.555) 39(-3,-3.555) 40(-3,3.555) 41(-2,-3.555) 42(-2,3.555) 43(-1,-3.555) 44(-1,3.555) 45(0,-3.555) 46(0,3.555) 47(1,-3.555) 48(1,3.555) 49(2,-3.555) 50(2,3.555) 51(3,-3.555) 52(3,3.555) 53(4,-3.555) 54(4,3.555) 55(5,-3.555) 56(5,3.555) 57(6,-3.555) 58(6,3.555) 59(7,-3.555) 60(7,3.555) 61(8,-3.555) 62(8,3.555) 63(9,-3.555) 64(9,3.555) 65(10,-3.555) 66(10,3.555) 67(11,-3.555) 68(11,3.555) 69(12,-3.555) 70(12,3.555) 71(13,-3.555) 72(13,3.555) 73(14,-3.555) 74(14,3.555) 75(15,-3.555) 76(15,3.555) 77(16,-3.555) 78(16,3.555) 79(17,-3.555) 80(17,3.555) 81(18,-3.555) 82(18,3.555) 83(19,-3.555) 84(19,3.555) 85(20,-3.555) 86(20,3.555) 87(21,-3.555) 88(21,3.555) 89(22,-3.555) 90(22,3.555)
F.SilkS:
  lines w0.254: -22.565,-4.618 -22.99,-4.618 -22.99,4.618 -22.565,4.618 ; 22.565,-4.618 22.99,-4.618 22.99,4.618 22.565,4.618 ; -22.264,-6.066 -21.736,-6.066 -22,-5.609 -22.264,-6.066
Top Assembly:
  lines w0.254: -22.5,-4.508 -22,-3.708 -21.5,-4.508 ; -22.88,-4.508 22.88,-4.508 22.88,4.508 -22.88,4.508 -22.88,-4.508
  text "'.Designator'" at -4.047,-0.84 h1
Top Courtyard:
  lines w0.254: -23.38,-5.83 23.38,-5.83 23.38,5.83 -23.38,5.83 -23.38,-5.83
Top Designator:
  text ".Designator" at -7.618,-0.626 h1.52

## Samtec_FSI-145-XX-X-D_2x45_P1.0mm_Socket [mm]
pads (90):
  rrect25% 0.61x1.26 smd: 1(-22,4.73) 2(-22,-4.73) 3(-21,4.73) 4(-21,-4.73) 5(-20,4.73) 6(-20,-4.73) 7(-19,4.73) 8(-19,-4.73) 9(-18,4.73) 10(-18,-4.73) 11(-17,4.73) 12(-17,-4.73) 13(-16,4.73) 14(-16,-4.73) 15(-15,4.73) 16(-15,-4.73) 17(-14,4.73) 18(-14,-4.73) 19(-13,4.73) 20(-13,-4.73) 21(-12,4.73) 22(-12,-4.73) 23(-11,4.73) 24(-11,-4.73) 25(-10,4.73) 26(-10,-4.73) 27(-9,4.73) 28(-9,-4.73) 29(-8,4.73) 30(-8,-4.73) 31(-7,4.73) 32(-7,-4.73) 33(-6,4.73) 34(-6,-4.73) 35(-5,4.73) 36(-5,-4.73) 37(-4,4.73) 38(-4,-4.73) 39(-3,4.73) 40(-3,-4.73) 41(-2,4.73) 42(-2,-4.73) 43(-1,4.73) 44(-1,-4.73) 45(0,4.73) 46(0,-4.73) 47(1,4.73) 48(1,-4.73) 49(2,4.73) 50(2,-4.73) 51(3,4.73) 52(3,-4.73) 53(4,4.73) 54(4,-4.73) 55(5,4.73) 56(5,-4.73) 57(6,4.73) 58(6,-4.73) 59(7,4.73) 60(7,-4.73) 61(8,4.73) 62(8,-4.73) 63(9,4.73) 64(9,-4.73) 65(10,4.73) 66(10,-4.73) 67(11,4.73) 68(11,-4.73) 69(12,4.73) 70(12,-4.73) 71(13,4.73) 72(13,-4.73) 73(14,4.73) 74(14,-4.73) 75(15,4.73) 76(15,-4.73) 77(16,4.73) 78(16,-4.73) 79(17,4.73) 80(17,-4.73) 81(18,4.73) 82(18,-4.73) 83(19,4.73) 84(19,-4.73) 85(20,4.73) 86(20,-4.73) 87(21,4.73) 88(21,-4.73) 89(22,4.73) 90(22,-4.73)
F.SilkS:
  lines w0.254: -22.565,-4.618 -22.99,-4.618 -22.99,4.618 -22.565,4.618 ; -22.007,5.62 -22.264,6.066 -21.736,6.066 -21.993,5.62 ; 22.565,-4.618 22.99,-4.618 22.99,4.618 22.565,4.618
Top Assembly:
  lines w0.254: -22.5,4.508 -22,3.708 -21.5,4.508 ; -22.88,-4.508 22.88,-4.508 22.88,4.508 -22.88,4.508 -22.88,-4.508
  text "'.Designator'" at -4.047,-0.84 h1
Top Courtyard:
  lines w0.254: -23.38,-5.86 23.38,-5.86 23.38,5.86 -23.38,5.86 -23.38,-5.86
Top Designator:
  text ".Designator" at -7.618,-0.405 h1.52

## Samtec_FSI-150-03-X-D-AD_2x50_P1.0mm_Socket_AlignmentPin [mm]
pads (102):
  rrect25% 0.61x1.26 smd: 1(-24.5,4.59) 2(-24.5,-4.59) 3(-23.5,4.59) 4(-23.5,-4.59) 5(-22.5,4.59) 6(-22.5,-4.59) 7(-21.5,4.59) 8(-21.5,-4.59) 9(-20.5,4.59) 10(-20.5,-4.59) 11(-19.5,4.59) 12(-19.5,-4.59) 13(-18.5,4.59) 14(-18.5,-4.59) 15(-17.5,4.59) 16(-17.5,-4.59) 17(-16.5,4.59) 18(-16.5,-4.59) 19(-15.5,4.59) 20(-15.5,-4.59) 21(-14.5,4.59) 22(-14.5,-4.59) 23(-13.5,4.59) 24(-13.5,-4.59) 25(-12.5,4.59) 26(-12.5,-4.59) 27(-11.5,4.59) 28(-11.5,-4.59) 29(-10.5,4.59) 30(-10.5,-4.59) 31(-9.5,4.59) 32(-9.5,-4.59) 33(-8.5,4.59) 34(-8.5,-4.59) 35(-7.5,4.59) 36(-7.5,-4.59) 37(-6.5,4.59) 38(-6.5,-4.59) 39(-5.5,4.59) 40(-5.5,-4.59) 41(-4.5,4.59) 42(-4.5,-4.59) 43(-3.5,4.59) 44(-3.5,-4.59) 45(-2.5,4.59) 46(-2.5,-4.59) 47(-1.5,4.59) 48(-1.5,-4.59) 49(-0.5,4.59) 50(-0.5,-4.59) 51(0.5,4.59) 52(0.5,-4.59) 53(1.5,4.59) 54(1.5,-4.59) 55(2.5,4.59) 56(2.5,-4.59) 57(3.5,4.59) 58(3.5,-4.59) 59(4.5,4.59) 60(4.5,-4.59) 61(5.5,4.59) 62(5.5,-4.59) 63(6.5,4.59) 64(6.5,-4.59) 65(7.5,4.59) 66(7.5,-4.59) 67(8.5,4.59) 68(8.5,-4.59) 69(9.5,4.59) 70(9.5,-4.59) 71(10.5,4.59) 72(10.5,-4.59) 73(11.5,4.59) 74(11.5,-4.59) 75(12.5,4.59) 76(12.5,-4.59) 77(13.5,4.59) 78(13.5,-4.59) 79(14.5,4.59) 80(14.5,-4.59) 81(15.5,4.59) 82(15.5,-4.59) 83(16.5,4.59) 84(16.5,-4.59) 85(17.5,4.59) 86(17.5,-4.59) 87(18.5,4.59) 88(18.5,-4.59) 89(19.5,4.59) 90(19.5,-4.59) 91(20.5,4.59) 92(20.5,-4.59) 93(21.5,4.59) 94(21.5,-4.59) 95(22.5,4.59) 96(22.5,-4.59) 97(23.5,4.59) 98(23.5,-4.59) 99(24.5,4.59) 100(24.5,-4.59)
  round 1.19 hole 1.19: Un1(-24.5,0) Un2(24.5,0)
F.SilkS:
  lines w0.254: -25.065,-4.49 -25.49,-4.49 -25.49,4.49 -25.065,4.49 ; 25.065,-4.49 25.49,-4.49 25.49,4.49 25.065,4.49 ; -24.764,5.937 -24.236,5.937 -24.5,5.48 -24.764,5.937
Top Assembly:
  lines w0.254: -25,4.38 -24.5,3.58 -24,4.38 ; -25.38,-4.38 25.38,-4.38 25.38,4.38 -25.38,4.38 -25.38,-4.38
  text "'.Designator'" at -4.047,-0.84 h1
Top Courtyard:
  lines w0.254: -25.88,-5.72 25.88,-5.72 25.88,5.72 -25.88,5.72 -25.88,-5.72
Top Designator:
  text ".Designator" at -7.618,-0.399 h1.52

## Samtec_FSI-150-03-X-D-M-AD_2x50_P1.0mm_Pol25_Socket_Threaded_AlignmentPin [mm]
pads (105):
  rrect25% 0.61x1.26 smd: 1(-28.5,4.59) 2(-28.5,-4.59) 3(-27.5,4.59) 4(-27.5,-4.59) 5(-26.5,4.59) 6(-26.5,-4.59) 7(-25.5,4.59) 8(-25.5,-4.59) 9(-24.5,4.59) 10(-24.5,-4.59) 11(-23.5,4.59) 12(-23.5,-4.59) 13(-22.5,4.59) 14(-22.5,-4.59) 15(-21.5,4.59) 16(-21.5,-4.59) 17(-20.5,4.59) 18(-20.5,-4.59) 19(-19.5,4.59) 20(-19.5,-4.59) 21(-18.5,4.59) 22(-18.5,-4.59) 23(-17.5,4.59) 24(-17.5,-4.59) 25(-16.5,4.59) 26(-16.5,-4.59) 27(-15.5,4.59) 28(-15.5,-4.59) 29(-14.5,4.59) 30(-14.5,-4.59) 31(-13.5,4.59) 32(-13.5,-4.59) 33(-12.5,4.59) 34(-12.5,-4.59) 35(-11.5,4.59) 36(-11.5,-4.59) 37(-10.5,4.59) 38(-10.5,-4.59) 39(-9.5,4.59) 40(-9.5,-4.59) 41(-8.5,4.59) 42(-8.5,-4.59) 43(-7.5,4.59) 44(-7.5,-4.59) 45(-6.5,4.59) 46(-6.5,-4.59) 47(-5.5,4.59) 48(-5.5,-4.59) 49(-4.5,4.59) 50(-4.5,-4.59) 51(4.5,4.59) 52(4.5,-4.59) 53(5.5,4.59) 54(5.5,-4.59) 55(6.5,4.59) 56(6.5,-4.59) 57(7.5,4.59) 58(7.5,-4.59) 59(8.5,4.59) 60(8.5,-4.59) 61(9.5,4.59) 62(9.5,-4.59) 63(10.5,4.59) 64(10.5,-4.59) 65(11.5,4.59) 66(11.5,-4.59) 67(12.5,4.59) 68(12.5,-4.59) 69(13.5,4.59) 70(13.5,-4.59) 71(14.5,4.59) 72(14.5,-4.59) 73(15.5,4.59) 74(15.5,-4.59) 75(16.5,4.59) 76(16.5,-4.59) 77(17.5,4.59) 78(17.5,-4.59) 79(18.5,4.59) 80(18.5,-4.59) 81(19.5,4.59) 82(19.5,-4.59) 83(20.5,4.59) 84(20.5,-4.59) 85(21.5,4.59) 86(21.5,-4.59) 87(22.5,4.59) 88(22.5,-4.59) 89(23.5,4.59) 90(23.5,-4.59) 91(24.5,4.59) 92(24.5,-4.59) 93(25.5,4.59) 94(25.5,-4.59) 95(26.5,4.59) 96(26.5,-4.59) 97(27.5,4.59) 98(27.5,-4.59) 99(28.5,4.59) 100(28.5,-4.59)
  round 2.54 hole 2.54: Un1(-32.62,0) Un3(0,0) Un5(32.62,0)
  round 1.19 hole 1.19: Un2(-28.5,0) Un4(28.5,0)
F.SilkS:
  lines w0.254: -29.065,-4.49 -29.49,-4.49 -29.49,-3.605 -36.16,-3.605 -36.16,3.605 -29.49,3.605 -29.49,4.49 -29.065,4.49 ; -3.935,-4.49 -3.51,-4.49 -3.51,-3.605 3.51,-3.605 3.51,-4.49 3.935,-4.49 ; -3.935,4.49 -3.51,4.49 -3.51,3.605 3.51,3.605 3.51,4.49 3.935,4.49 ; 29.065,-4.49 29.49,-4.49 29.49,-3.605 36.16,-3.605 36.16,3.605 29.49,3.605 29.49,4.49 29.065,4.49 ; -28.764,5.937 -28.236,5.937 -28.5,5.48 -28.764,5.937
Top Assembly:
  lines w0.254: -29,4.38 -28.5,3.58 -28,4.38 ; -36.05,-3.495 -29.38,-3.495 -29.38,-4.38 -3.62,-4.38 -3.62,-3.495 3.62,-3.495 3.62,-4.38 29.38,-4.38 29.38,-3.495 36.05,-3.495 36.05,3.495 29.38,3.495 29.38,4.38 3.62,4.38 3.62,3.495 -3.62,3.495 -3.62,4.38 -29.38,4.38 -29.38,3.495 -36.05,3.495 -36.05,-3.495
  text "'.Designator'" at -4.047,-0.84 h1
Top Courtyard:
  lines w0.254: -36.55,-5.72 36.55,-5.72 36.55,5.72 -36.55,5.72 -36.55,-5.72
Top Designator:
  text ".Designator" at -7.618,-0.399 h1.52